# Altium integrated library NSC Interface.IntLib: 1288 symbols (part 5 of 45)
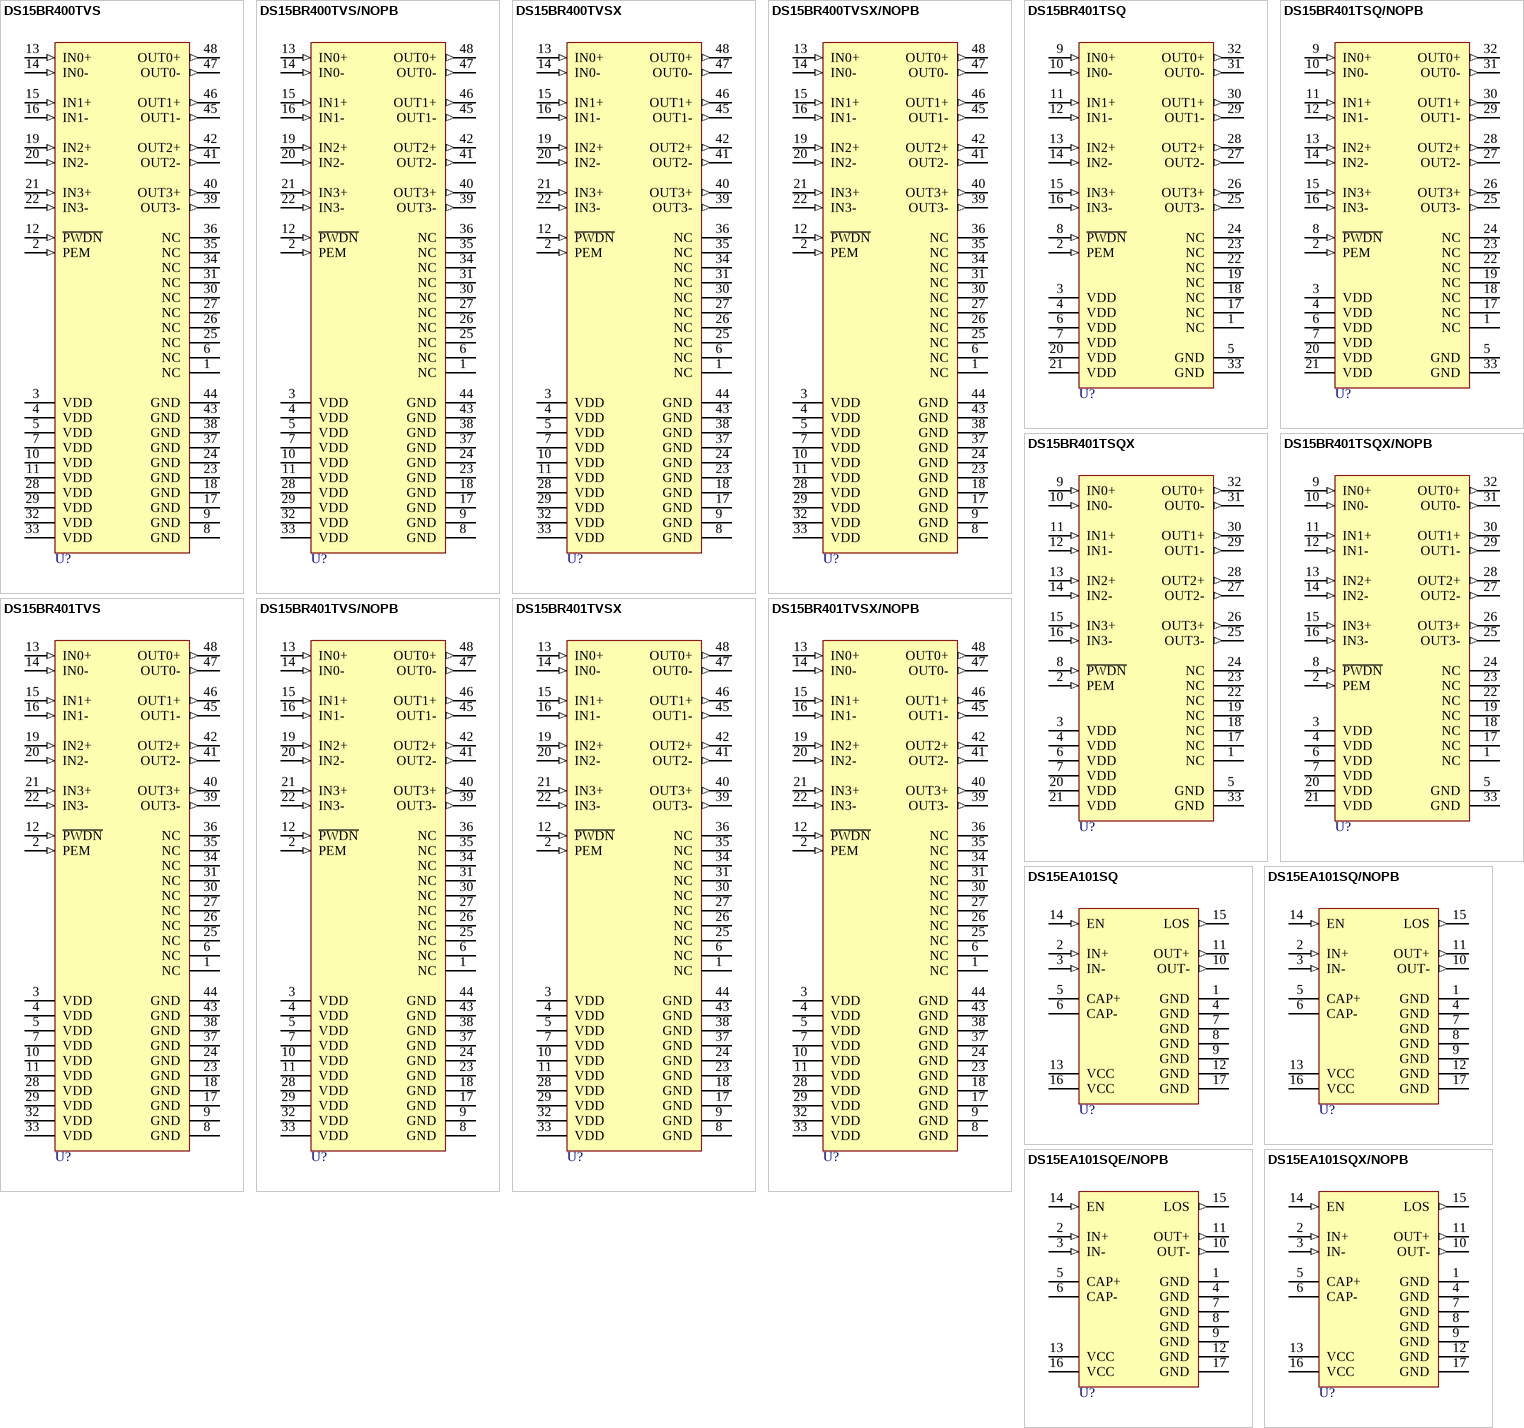
[diagram p116: symbols DS15BR400TVS to DS15EA101SQX/NOPB]

## DS15BR400TVS
designator U?
Four-Channel LVDS Repeaters with Pre-Emphasis, 48-pin TQFP; PartNumber: DS15BR400TVS; Manufacturer: National Semiconductor; PackageTopMarking: NSUZXYTT*DS15BR*400TVS; PowerWise: N; CompType: Interface IC; Published: 4-Dec-2008; DatasheetVersion: May-2007; PackageVersion: revA, Apr-2000; PackageReference: VBC48A; Publisher: Altium Limited; PackageDescription: TQFP, Jedec Metric, 7 x 7 x 1mm, 48 Lead, 0.5mm Pitch; RoHS: N; PinCount: 48; Code_JEDEC: MS-026-ABC; ComponentLink1Description: DS15BR400 Datasheet; ComponentLink1URL: http://www.national.com/ds/DS/DS15BR400.pdf; ComponentLink2Description: DS15BR400 Web Page; ComponentLink2URL: http://www.national.com/pf/DS/DS15BR400.html; ComponentLink3Description: VBC48A Package Page; ComponentLink3URL: http://www.national.com/packaging/folders/vbc48a.html
footprint VBC48A_N (Thin QFP, 48-Leads, Body 7x7mm, Pitch 0.5mm, IPC Medium Density)
footprint VBC48A_L (Thin QFP, 48-Leads, Body 7x7mm, Pitch 0.5mm, IPC High Density)
footprint VBC48A_M (Thin QFP, 48-Leads, Body 7x7mm, Pitch 0.5mm, IPC Low Density)
pins: 1 NC, 2 PEM (in), 3 VDD (power), 4 VDD (power), 5 VDD (power), 6 NC, 7 VDD (power), 8 GND (power), 9 GND (power), 10 VDD (power), 11 VDD (power), 12 ~{PWDN} (in), 13 IN0+ (in), 14 IN0- (in), 15 IN1+ (in), 16 IN1- (in), 17 GND (power), 18 GND (power), 19 IN2+ (in), 20 IN2- (in), 21 IN3+ (in), 22 IN3- (in), 23 GND (power), 24 GND (power), 25 NC, 26 NC, 27 NC, 28 VDD (power), 29 VDD (power), 30 NC, 31 NC, 32 VDD (power), 33 VDD (power), 34 NC, 35 NC, 36 NC, 37 GND (power), 38 GND (power), 39 OUT3- (out), 40 OUT3+ (out), 41 OUT2- (out), 42 OUT2+ (out), 43 GND (power), 44 GND (power), 45 OUT1- (out), 46 OUT1+ (out), 47 OUT0- (out), 48 OUT0+ (out)

## DS15BR400TVS/NOPB
designator U?
Four-Channel LVDS Repeaters with Pre-Emphasis, 48-pin TQFP, Pb-Free; PartNumber: DS15BR400TVS/NOPB; Manufacturer: National Semiconductor; PackageTopMarking: NSUZXYTT*DS15BR*400TVS; PowerWise: N; CompType: Interface IC; Published: 1-Mar-2010; DatasheetVersion: May-2007; PackageVersion: revA, Apr-2000; PackageReference: VBC48A; Publisher: Altium Limited; PackageDescription: TQFP, Jedec Metric, 7 x 7 x 1mm, 48 Lead, 0.5mm Pitch; Supplier 1: Digi-Key; Supplier Part Number 1: DS15BR400TVS-ND; Supplier 2: Farnell; Supplier Part Number 2: 1685362; RoHS: Y; PinCount: 48; Code_JEDEC: MS-026-ABC; ComponentLink1Description: DS15BR400 Datasheet; ComponentLink1URL: http://www.national.com/ds/DS/DS15BR400.pdf; ComponentLink2Description: DS15BR400 Web Page; ComponentLink2URL: http://www.national.com/pf/DS/DS15BR400.html; ComponentLink3Description: VBC48A Package Page; ComponentLink3URL: http://www.national.com/packaging/folders/vbc48a.html
footprint VBC48A_N (Thin QFP, 48-Leads, Body 7x7mm, Pitch 0.5mm, IPC Medium Density)
footprint VBC48A_L (Thin QFP, 48-Leads, Body 7x7mm, Pitch 0.5mm, IPC High Density)
footprint VBC48A_M (Thin QFP, 48-Leads, Body 7x7mm, Pitch 0.5mm, IPC Low Density)
pins: 1 NC, 2 PEM (in), 3 VDD (power), 4 VDD (power), 5 VDD (power), 6 NC, 7 VDD (power), 8 GND (power), 9 GND (power), 10 VDD (power), 11 VDD (power), 12 ~{PWDN} (in), 13 IN0+ (in), 14 IN0- (in), 15 IN1+ (in), 16 IN1- (in), 17 GND (power), 18 GND (power), 19 IN2+ (in), 20 IN2- (in), 21 IN3+ (in), 22 IN3- (in), 23 GND (power), 24 GND (power), 25 NC, 26 NC, 27 NC, 28 VDD (power), 29 VDD (power), 30 NC, 31 NC, 32 VDD (power), 33 VDD (power), 34 NC, 35 NC, 36 NC, 37 GND (power), 38 GND (power), 39 OUT3- (out), 40 OUT3+ (out), 41 OUT2- (out), 42 OUT2+ (out), 43 GND (power), 44 GND (power), 45 OUT1- (out), 46 OUT1+ (out), 47 OUT0- (out), 48 OUT0+ (out)

## DS15BR400TVSX
designator U?
Four-Channel LVDS Repeaters with Pre-Emphasis, 48-pin TQFP; PartNumber: DS15BR400TVSX; Manufacturer: National Semiconductor; PackageTopMarking: NSUZXYTT*DS15BR*400TVS; PowerWise: N; CompType: Interface IC; Published: 1-Mar-2010; DatasheetVersion: May-2007; PackageVersion: revA, Apr-2000; PackageReference: VBC48A; Publisher: Altium Limited; PackageDescription: TQFP, Jedec Metric, 7 x 7 x 1mm, 48 Lead, 0.5mm Pitch; RoHS: N; PinCount: 48; Code_JEDEC: MS-026-ABC; ComponentLink1Description: DS15BR400 Datasheet; ComponentLink1URL: http://www.national.com/ds/DS/DS15BR400.pdf; ComponentLink2Description: DS15BR400 Web Page; ComponentLink2URL: http://www.national.com/pf/DS/DS15BR400.html; ComponentLink3Description: VBC48A Package Page; ComponentLink3URL: http://www.national.com/packaging/folders/vbc48a.html
footprint VBC48A_N (Thin QFP, 48-Leads, Body 7x7mm, Pitch 0.5mm, IPC Medium Density)
footprint VBC48A_L (Thin QFP, 48-Leads, Body 7x7mm, Pitch 0.5mm, IPC High Density)
footprint VBC48A_M (Thin QFP, 48-Leads, Body 7x7mm, Pitch 0.5mm, IPC Low Density)
pins: 1 NC, 2 PEM (in), 3 VDD (power), 4 VDD (power), 5 VDD (power), 6 NC, 7 VDD (power), 8 GND (power), 9 GND (power), 10 VDD (power), 11 VDD (power), 12 ~{PWDN} (in), 13 IN0+ (in), 14 IN0- (in), 15 IN1+ (in), 16 IN1- (in), 17 GND (power), 18 GND (power), 19 IN2+ (in), 20 IN2- (in), 21 IN3+ (in), 22 IN3- (in), 23 GND (power), 24 GND (power), 25 NC, 26 NC, 27 NC, 28 VDD (power), 29 VDD (power), 30 NC, 31 NC, 32 VDD (power), 33 VDD (power), 34 NC, 35 NC, 36 NC, 37 GND (power), 38 GND (power), 39 OUT3- (out), 40 OUT3+ (out), 41 OUT2- (out), 42 OUT2+ (out), 43 GND (power), 44 GND (power), 45 OUT1- (out), 46 OUT1+ (out), 47 OUT0- (out), 48 OUT0+ (out)

## DS15BR400TVSX/NOPB
designator U?
Four-Channel LVDS Repeaters with Pre-Emphasis, 48-pin TQFP, Pb-Free; PartNumber: DS15BR400TVSX/NOPB; Manufacturer: National Semiconductor; PackageTopMarking: NSUZXYTT*DS15BR*400TVS; PowerWise: N; CompType: Interface IC; Published: 1-Mar-2010; DatasheetVersion: May-2007; PackageVersion: revA, Apr-2000; PackageReference: VBC48A; Publisher: Altium Limited; PackageDescription: TQFP, Jedec Metric, 7 x 7 x 1mm, 48 Lead, 0.5mm Pitch; Supplier 1: Digi-Key; Supplier Part Number 1: DS15BR400TVSX-ND; RoHS: Y; PinCount: 48; Code_JEDEC: MS-026-ABC; ComponentLink1Description: DS15BR400 Datasheet; ComponentLink1URL: http://www.national.com/ds/DS/DS15BR400.pdf; ComponentLink2Description: DS15BR400 Web Page; ComponentLink2URL: http://www.national.com/pf/DS/DS15BR400.html; ComponentLink3Description: VBC48A Package Page; ComponentLink3URL: http://www.national.com/packaging/folders/vbc48a.html
footprint VBC48A_N (Thin QFP, 48-Leads, Body 7x7mm, Pitch 0.5mm, IPC Medium Density)
footprint VBC48A_L (Thin QFP, 48-Leads, Body 7x7mm, Pitch 0.5mm, IPC High Density)
footprint VBC48A_M (Thin QFP, 48-Leads, Body 7x7mm, Pitch 0.5mm, IPC Low Density)
pins: 1 NC, 2 PEM (in), 3 VDD (power), 4 VDD (power), 5 VDD (power), 6 NC, 7 VDD (power), 8 GND (power), 9 GND (power), 10 VDD (power), 11 VDD (power), 12 ~{PWDN} (in), 13 IN0+ (in), 14 IN0- (in), 15 IN1+ (in), 16 IN1- (in), 17 GND (power), 18 GND (power), 19 IN2+ (in), 20 IN2- (in), 21 IN3+ (in), 22 IN3- (in), 23 GND (power), 24 GND (power), 25 NC, 26 NC, 27 NC, 28 VDD (power), 29 VDD (power), 30 NC, 31 NC, 32 VDD (power), 33 VDD (power), 34 NC, 35 NC, 36 NC, 37 GND (power), 38 GND (power), 39 OUT3- (out), 40 OUT3+ (out), 41 OUT2- (out), 42 OUT2+ (out), 43 GND (power), 44 GND (power), 45 OUT1- (out), 46 OUT1+ (out), 47 OUT0- (out), 48 OUT0+ (out)

## DS15BR401TSQ
designator U?
Four-Channel LVDS Repeaters with Pre-Emphasis, 32-pin LLP; PartNumber: DS15BR401TSQ; Manufacturer: National Semiconductor; PackageTopMarking: NS*UZXYTT*5R401SQ; PowerWise: N; CompType: Interface IC; Published: 4-Dec-2008; DatasheetVersion: May-2007; PackageVersion: revB, Oct-2009; PackageReference: SQA32A; Publisher: Altium Limited; PackageDescription: LLP, Quad, 5 x 5 x 0.8mm, 32 Lead, 0.5mm Pitch, No Pullback 3.1 x 3.1 Exposed Pad; RoHS: N; PinCount: 32; ComponentLink1Description: DS15BR401 Datasheet; ComponentLink1URL: http://www.national.com/ds/DS/DS15BR401.pdf; ComponentLink2Description: DS15BR401 Web Page; ComponentLink2URL: http://www.national.com/pf/DS/DS15BR401.html; ComponentLink3Description: SQA32A Package Page; ComponentLink3URL: http://www.national.com/packaging/folders/sqa32a.html
footprint SQA32A (QFN, 32-Leads, Body 5x5mm, Pitch 0.5mm, NSC Recommended)
pins: 1 NC, 2 PEM (in), 3 VDD (power), 4 VDD (power), 5 GND (power), 6 VDD (power), 7 VDD (power), 8 ~{PWDN} (in), 9 IN0+ (in), 10 IN0- (in), 11 IN1+ (in), 12 IN1- (in), 13 IN2+ (in), 14 IN2- (in), 15 IN3+ (in), 16 IN3- (in), 17 NC, 18 NC, 19 NC, 20 VDD (power), 21 VDD (power), 22 NC, 23 NC, 24 NC, 25 OUT3- (out), 26 OUT3+ (out), 27 OUT2- (out), 28 OUT2+ (out), 29 OUT1- (out), 30 OUT1+ (out), 31 OUT0- (out), 32 OUT0+ (out), 33 GND (power)

## DS15BR401TSQ/NOPB
designator U?
Four-Channel LVDS Repeaters with Pre-Emphasis, 32-pin LLP, Pb-Free; PartNumber: DS15BR401TSQ/NOPB; Manufacturer: National Semiconductor; PackageTopMarking: NS*UZXYTT*5R401SQ; PowerWise: N; CompType: Interface IC; Published: 1-Mar-2010; DatasheetVersion: May-2007; PackageVersion: revB, Oct-2009; PackageReference: SQA32A; Publisher: Altium Limited; PackageDescription: LLP, Quad, 5 x 5 x 0.8mm, 32 Lead, 0.5mm Pitch, No Pullback 3.1 x 3.1 Exposed Pad; Supplier 1: Digi-Key; Supplier Part Number 1: DS15BR401TSQTR-ND; Supplier 2: Digi-Key; Supplier Part Number 2: DS15BR401TSQCT-ND; Supplier 3: Digi-Key; Supplier Part Number 3: DS15BR401TSQDKR-ND; RoHS: Y; PinCount: 32; ComponentLink1Description: DS15BR401 Datasheet; ComponentLink1URL: http://www.national.com/ds/DS/DS15BR401.pdf; ComponentLink2Description: DS15BR401 Web Page; ComponentLink2URL: http://www.national.com/pf/DS/DS15BR401.html; ComponentLink3Description: SQA32A Package Page; ComponentLink3URL: http://www.national.com/packaging/folders/sqa32a.html
footprint SQA32A (QFN, 32-Leads, Body 5x5mm, Pitch 0.5mm, NSC Recommended)
pins: 1 NC, 2 PEM (in), 3 VDD (power), 4 VDD (power), 5 GND (power), 6 VDD (power), 7 VDD (power), 8 ~{PWDN} (in), 9 IN0+ (in), 10 IN0- (in), 11 IN1+ (in), 12 IN1- (in), 13 IN2+ (in), 14 IN2- (in), 15 IN3+ (in), 16 IN3- (in), 17 NC, 18 NC, 19 NC, 20 VDD (power), 21 VDD (power), 22 NC, 23 NC, 24 NC, 25 OUT3- (out), 26 OUT3+ (out), 27 OUT2- (out), 28 OUT2+ (out), 29 OUT1- (out), 30 OUT1+ (out), 31 OUT0- (out), 32 OUT0+ (out), 33 GND (power)

## DS15BR401TSQX
designator U?
Four-Channel LVDS Repeaters with Pre-Emphasis, 32-pin LLP; PartNumber: DS15BR401TSQX; Manufacturer: National Semiconductor; PackageTopMarking: NS*UZXYTT*5R401SQ; PowerWise: N; CompType: Interface IC; Published: 1-Mar-2010; DatasheetVersion: May-2007; PackageVersion: revB, Oct-2009; PackageReference: SQA32A; Publisher: Altium Limited; PackageDescription: LLP, Quad, 5 x 5 x 0.8mm, 32 Lead, 0.5mm Pitch, No Pullback 3.1 x 3.1 Exposed Pad; RoHS: N; PinCount: 32; ComponentLink1Description: DS15BR401 Datasheet; ComponentLink1URL: http://www.national.com/ds/DS/DS15BR401.pdf; ComponentLink2Description: DS15BR401 Web Page; ComponentLink2URL: http://www.national.com/pf/DS/DS15BR401.html; ComponentLink3Description: SQA32A Package Page; ComponentLink3URL: http://www.national.com/packaging/folders/sqa32a.html
footprint SQA32A (QFN, 32-Leads, Body 5x5mm, Pitch 0.5mm, NSC Recommended)
pins: 1 NC, 2 PEM (in), 3 VDD (power), 4 VDD (power), 5 GND (power), 6 VDD (power), 7 VDD (power), 8 ~{PWDN} (in), 9 IN0+ (in), 10 IN0- (in), 11 IN1+ (in), 12 IN1- (in), 13 IN2+ (in), 14 IN2- (in), 15 IN3+ (in), 16 IN3- (in), 17 NC, 18 NC, 19 NC, 20 VDD (power), 21 VDD (power), 22 NC, 23 NC, 24 NC, 25 OUT3- (out), 26 OUT3+ (out), 27 OUT2- (out), 28 OUT2+ (out), 29 OUT1- (out), 30 OUT1+ (out), 31 OUT0- (out), 32 OUT0+ (out), 33 GND (power)

## DS15BR401TSQX/NOPB
designator U?
Four-Channel LVDS Repeaters with Pre-Emphasis, 32-pin LLP, Pb-Free; PartNumber: DS15BR401TSQX/NOPB; Manufacturer: National Semiconductor; PackageTopMarking: NS*UZXYTT*5R401SQ; PowerWise: N; CompType: Interface IC; Published: 1-Mar-2010; DatasheetVersion: May-2007; PackageVersion: revB, Oct-2009; PackageReference: SQA32A; Publisher: Altium Limited; PackageDescription: LLP, Quad, 5 x 5 x 0.8mm, 32 Lead, 0.5mm Pitch, No Pullback 3.1 x 3.1 Exposed Pad; Supplier 1: Digi-Key; Supplier Part Number 1: DS15BR401TSQX-ND; RoHS: Y; PinCount: 32; ComponentLink1Description: DS15BR401 Datasheet; ComponentLink1URL: http://www.national.com/ds/DS/DS15BR401.pdf; ComponentLink2Description: DS15BR401 Web Page; ComponentLink2URL: http://www.national.com/pf/DS/DS15BR401.html; ComponentLink3Description: SQA32A Package Page; ComponentLink3URL: http://www.national.com/packaging/folders/sqa32a.html
footprint SQA32A (QFN, 32-Leads, Body 5x5mm, Pitch 0.5mm, NSC Recommended)
pins: 1 NC, 2 PEM (in), 3 VDD (power), 4 VDD (power), 5 GND (power), 6 VDD (power), 7 VDD (power), 8 ~{PWDN} (in), 9 IN0+ (in), 10 IN0- (in), 11 IN1+ (in), 12 IN1- (in), 13 IN2+ (in), 14 IN2- (in), 15 IN3+ (in), 16 IN3- (in), 17 NC, 18 NC, 19 NC, 20 VDD (power), 21 VDD (power), 22 NC, 23 NC, 24 NC, 25 OUT3- (out), 26 OUT3+ (out), 27 OUT2- (out), 28 OUT2+ (out), 29 OUT1- (out), 30 OUT1+ (out), 31 OUT0- (out), 32 OUT0+ (out), 33 GND (power)

## DS15BR401TVS
designator U?
Four-Channel LVDS Repeaters with Pre-Emphasis, 48-pin TQFP; PartNumber: DS15BR401TVS; Manufacturer: National Semiconductor; PackageTopMarking: NSUZXYTT*DS15BR*401TVS; PowerWise: N; CompType: Interface IC; Published: 4-Dec-2008; DatasheetVersion: May-2007; PackageVersion: revA, Apr-2000; PackageReference: VBC48A; Publisher: Altium Limited; PackageDescription: TQFP, Jedec Metric, 7 x 7 x 1mm, 48 Lead, 0.5mm Pitch; RoHS: N; PinCount: 48; Code_JEDEC: MS-026-ABC; ComponentLink1Description: DS15BR401 Datasheet; ComponentLink1URL: http://www.national.com/ds/DS/DS15BR401.pdf; ComponentLink2Description: DS15BR401 Web Page; ComponentLink2URL: http://www.national.com/pf/DS/DS15BR401.html; ComponentLink3Description: VBC48A Package Page; ComponentLink3URL: http://www.national.com/packaging/folders/vbc48a.html
footprint VBC48A_N (Thin QFP, 48-Leads, Body 7x7mm, Pitch 0.5mm, IPC Medium Density)
footprint VBC48A_L (Thin QFP, 48-Leads, Body 7x7mm, Pitch 0.5mm, IPC High Density)
footprint VBC48A_M (Thin QFP, 48-Leads, Body 7x7mm, Pitch 0.5mm, IPC Low Density)
pins: 1 NC, 2 PEM (in), 3 VDD (power), 4 VDD (power), 5 VDD (power), 6 NC, 7 VDD (power), 8 GND (power), 9 GND (power), 10 VDD (power), 11 VDD (power), 12 ~{PWDN} (in), 13 IN0+ (in), 14 IN0- (in), 15 IN1+ (in), 16 IN1- (in), 17 GND (power), 18 GND (power), 19 IN2+ (in), 20 IN2- (in), 21 IN3+ (in), 22 IN3- (in), 23 GND (power), 24 GND (power), 25 NC, 26 NC, 27 NC, 28 VDD (power), 29 VDD (power), 30 NC, 31 NC, 32 VDD (power), 33 VDD (power), 34 NC, 35 NC, 36 NC, 37 GND (power), 38 GND (power), 39 OUT3- (out), 40 OUT3+ (out), 41 OUT2- (out), 42 OUT2+ (out), 43 GND (power), 44 GND (power), 45 OUT1- (out), 46 OUT1+ (out), 47 OUT0- (out), 48 OUT0+ (out)

## DS15BR401TVS/NOPB
designator U?
Four-Channel LVDS Repeaters with Pre-Emphasis, 48-pin TQFP, Pb-Free; PartNumber: DS15BR401TVS/NOPB; Manufacturer: National Semiconductor; PackageTopMarking: NSUZXYTT*DS15BR*401TVS; PowerWise: N; CompType: Interface IC; Published: 1-Mar-2010; DatasheetVersion: May-2007; PackageVersion: revA, Apr-2000; PackageReference: VBC48A; Publisher: Altium Limited; PackageDescription: TQFP, Jedec Metric, 7 x 7 x 1mm, 48 Lead, 0.5mm Pitch; Supplier 1: Digi-Key; Supplier Part Number 1: DS15BR401TVS-ND; RoHS: Y; PinCount: 48; Code_JEDEC: MS-026-ABC; ComponentLink1Description: DS15BR401 Datasheet; ComponentLink1URL: http://www.national.com/ds/DS/DS15BR401.pdf; ComponentLink2Description: DS15BR401 Web Page; ComponentLink2URL: http://www.national.com/pf/DS/DS15BR401.html; ComponentLink3Description: VBC48A Package Page; ComponentLink3URL: http://www.national.com/packaging/folders/vbc48a.html
footprint VBC48A_N (Thin QFP, 48-Leads, Body 7x7mm, Pitch 0.5mm, IPC Medium Density)
footprint VBC48A_L (Thin QFP, 48-Leads, Body 7x7mm, Pitch 0.5mm, IPC High Density)
footprint VBC48A_M (Thin QFP, 48-Leads, Body 7x7mm, Pitch 0.5mm, IPC Low Density)
pins: 1 NC, 2 PEM (in), 3 VDD (power), 4 VDD (power), 5 VDD (power), 6 NC, 7 VDD (power), 8 GND (power), 9 GND (power), 10 VDD (power), 11 VDD (power), 12 ~{PWDN} (in), 13 IN0+ (in), 14 IN0- (in), 15 IN1+ (in), 16 IN1- (in), 17 GND (power), 18 GND (power), 19 IN2+ (in), 20 IN2- (in), 21 IN3+ (in), 22 IN3- (in), 23 GND (power), 24 GND (power), 25 NC, 26 NC, 27 NC, 28 VDD (power), 29 VDD (power), 30 NC, 31 NC, 32 VDD (power), 33 VDD (power), 34 NC, 35 NC, 36 NC, 37 GND (power), 38 GND (power), 39 OUT3- (out), 40 OUT3+ (out), 41 OUT2- (out), 42 OUT2+ (out), 43 GND (power), 44 GND (power), 45 OUT1- (out), 46 OUT1+ (out), 47 OUT0- (out), 48 OUT0+ (out)

## DS15BR401TVSX
designator U?
Four-Channel LVDS Repeaters with Pre-Emphasis, 48-pin TQFP; PartNumber: DS15BR401TVSX; Manufacturer: National Semiconductor; PackageTopMarking: NSUZXYTT*DS15BR*401TVS; PowerWise: N; CompType: Interface IC; Published: 1-Mar-2010; DatasheetVersion: May-2007; PackageVersion: revA, Apr-2000; PackageReference: VBC48A; Publisher: Altium Limited; PackageDescription: TQFP, Jedec Metric, 7 x 7 x 1mm, 48 Lead, 0.5mm Pitch; RoHS: N; PinCount: 48; Code_JEDEC: MS-026-ABC; ComponentLink1Description: DS15BR401 Datasheet; ComponentLink1URL: http://www.national.com/ds/DS/DS15BR401.pdf; ComponentLink2Description: DS15BR401 Web Page; ComponentLink2URL: http://www.national.com/pf/DS/DS15BR401.html; ComponentLink3Description: VBC48A Package Page; ComponentLink3URL: http://www.national.com/packaging/folders/vbc48a.html
footprint VBC48A_N (Thin QFP, 48-Leads, Body 7x7mm, Pitch 0.5mm, IPC Medium Density)
footprint VBC48A_L (Thin QFP, 48-Leads, Body 7x7mm, Pitch 0.5mm, IPC High Density)
footprint VBC48A_M (Thin QFP, 48-Leads, Body 7x7mm, Pitch 0.5mm, IPC Low Density)
pins: 1 NC, 2 PEM (in), 3 VDD (power), 4 VDD (power), 5 VDD (power), 6 NC, 7 VDD (power), 8 GND (power), 9 GND (power), 10 VDD (power), 11 VDD (power), 12 ~{PWDN} (in), 13 IN0+ (in), 14 IN0- (in), 15 IN1+ (in), 16 IN1- (in), 17 GND (power), 18 GND (power), 19 IN2+ (in), 20 IN2- (in), 21 IN3+ (in), 22 IN3- (in), 23 GND (power), 24 GND (power), 25 NC, 26 NC, 27 NC, 28 VDD (power), 29 VDD (power), 30 NC, 31 NC, 32 VDD (power), 33 VDD (power), 34 NC, 35 NC, 36 NC, 37 GND (power), 38 GND (power), 39 OUT3- (out), 40 OUT3+ (out), 41 OUT2- (out), 42 OUT2+ (out), 43 GND (power), 44 GND (power), 45 OUT1- (out), 46 OUT1+ (out), 47 OUT0- (out), 48 OUT0+ (out)

## DS15BR401TVSX/NOPB
designator U?
Four-Channel LVDS Repeaters with Pre-Emphasis, 48-pin TQFP, Pb-Free; PartNumber: DS15BR401TVSX/NOPB; Manufacturer: National Semiconductor; PackageTopMarking: NSUZXYTT*DS15BR*401TVS; PowerWise: N; CompType: Interface IC; Published: 1-Mar-2010; DatasheetVersion: May-2007; PackageVersion: revA, Apr-2000; PackageReference: VBC48A; Publisher: Altium Limited; PackageDescription: TQFP, Jedec Metric, 7 x 7 x 1mm, 48 Lead, 0.5mm Pitch; Supplier 1: Digi-Key; Supplier Part Number 1: DS15BR401TVSX-ND; RoHS: Y; PinCount: 48; Code_JEDEC: MS-026-ABC; ComponentLink1Description: DS15BR401 Datasheet; ComponentLink1URL: http://www.national.com/ds/DS/DS15BR401.pdf; ComponentLink2Description: DS15BR401 Web Page; ComponentLink2URL: http://www.national.com/pf/DS/DS15BR401.html; ComponentLink3Description: VBC48A Package Page; ComponentLink3URL: http://www.national.com/packaging/folders/vbc48a.html
footprint VBC48A_N (Thin QFP, 48-Leads, Body 7x7mm, Pitch 0.5mm, IPC Medium Density)
footprint VBC48A_L (Thin QFP, 48-Leads, Body 7x7mm, Pitch 0.5mm, IPC High Density)
footprint VBC48A_M (Thin QFP, 48-Leads, Body 7x7mm, Pitch 0.5mm, IPC Low Density)
pins: 1 NC, 2 PEM (in), 3 VDD (power), 4 VDD (power), 5 VDD (power), 6 NC, 7 VDD (power), 8 GND (power), 9 GND (power), 10 VDD (power), 11 VDD (power), 12 ~{PWDN} (in), 13 IN0+ (in), 14 IN0- (in), 15 IN1+ (in), 16 IN1- (in), 17 GND (power), 18 GND (power), 19 IN2+ (in), 20 IN2- (in), 21 IN3+ (in), 22 IN3- (in), 23 GND (power), 24 GND (power), 25 NC, 26 NC, 27 NC, 28 VDD (power), 29 VDD (power), 30 NC, 31 NC, 32 VDD (power), 33 VDD (power), 34 NC, 35 NC, 36 NC, 37 GND (power), 38 GND (power), 39 OUT3- (out), 40 OUT3+ (out), 41 OUT2- (out), 42 OUT2+ (out), 43 GND (power), 44 GND (power), 45 OUT1- (out), 46 OUT1+ (out), 47 OUT0- (out), 48 OUT0+ (out)

## DS15EA101SQ
designator U?
0.15 to 1.5 Gbps Adaptive Cable Equalizer with LOS Detection, 16-pin LLP; PartNumber: DS15EA101SQ; Manufacturer: National Semiconductor; PackageTopMarking: NS*UZXYTT*15EA101; PowerWise: N; CompType: Interface IC; Published: 4-Dec-2008; DatasheetVersion: Jan-2009; PackageVersion: revA, Oct-2003; PackageReference: SQA16A; Publisher: Altium Limited; PackageDescription: LLP, Plastic, Quad, 4 x 4 x 0.8mm Body, 16 Lead, 0.5mm Pitch, No Pullback; RoHS: Y; PinCount: 16; ComponentLink1Description: DS15EA101 Datasheet; ComponentLink1URL: http://www.national.com/ds/DS/DS15EA101.pdf; ComponentLink2Description: DS15EA101 Web Page; ComponentLink2URL: http://www.national.com/pf/DS/DS15EA101.html; ComponentLink3Description: SQA16A Package Page; ComponentLink3URL: http://www.national.com/packaging/folders/sqa16a.html
footprint SQA16A (QFN, 16-Leads, Body 4x4mm, Pitch 0.5mm, NSC Recommended)
pins: 1 GND (power), 2 IN+ (in), 3 IN- (in), 4 GND (power), 5 CAP+, 6 CAP-, 7 GND (power), 8 GND (power), 9 GND (power), 10 OUT- (out), 11 OUT+ (out), 12 GND (power), 13 VCC (power), 14 EN (in), 15 LOS (out), 16 VCC (power), 17 GND (power)

## DS15EA101SQ/NOPB
designator U?
0.15 to 1.5 Gbps Adaptive Cable Equalizer with LOS Detection, 16-pin LLP, Pb-Free; PartNumber: DS15EA101SQ/NOPB; Manufacturer: National Semiconductor; PackageTopMarking: NS*UZXYTT*15EA101; PowerWise: N; CompType: Interface IC; Published: 1-Mar-2010; DatasheetVersion: Jan-2009; PackageVersion: revA, Oct-2003; PackageReference: SQA16A; Publisher: Altium Limited; PackageDescription: LLP, Plastic, Quad, 4 x 4 x 0.8mm Body, 16 Lead, 0.5mm Pitch, No Pullback; Supplier 1: Digi-Key; Supplier Part Number 1: DS15EA101SQTR-ND; Supplier 2: Digi-Key; Supplier Part Number 2: DS15EA101SQCT-ND; Supplier 3: Digi-Key; Supplier Part Number 3: DS15EA101SQDKR-ND; Supplier 4: Farnell; Supplier Part Number 4: 1685579; RoHS: Y; PinCount: 16; ComponentLink1Description: DS15EA101 Datasheet; ComponentLink1URL: http://www.national.com/ds/DS/DS15EA101.pdf; ComponentLink2Description: DS15EA101 Web Page; ComponentLink2URL: http://www.national.com/pf/DS/DS15EA101.html; ComponentLink3Description: SQA16A Package Page; ComponentLink3URL: http://www.national.com/packaging/folders/sqa16a.html
footprint SQA16A (QFN, 16-Leads, Body 4x4mm, Pitch 0.5mm, NSC Recommended)
pins: 1 GND (power), 2 IN+ (in), 3 IN- (in), 4 GND (power), 5 CAP+, 6 CAP-, 7 GND (power), 8 GND (power), 9 GND (power), 10 OUT- (out), 11 OUT+ (out), 12 GND (power), 13 VCC (power), 14 EN (in), 15 LOS (out), 16 VCC (power), 17 GND (power)

## DS15EA101SQE/NOPB
designator U?
0.15 to 1.5 Gbps Adaptive Cable Equalizer with LOS Detection, 16-pin LLP, Pb-Free; PartNumber: DS15EA101SQE/NOPB; Manufacturer: National Semiconductor; PackageTopMarking: NS*UZXYTT*15EA101; PowerWise: N; CompType: Interface IC; Published: 1-Mar-2010; DatasheetVersion: Jan-2009; PackageVersion: revA, Oct-2003; PackageReference: SQA16A; Publisher: Altium Limited; PackageDescription: LLP, Plastic, Quad, 4 x 4 x 0.8mm Body, 16 Lead, 0.5mm Pitch, No Pullback; Supplier 1: Digi-Key; Supplier Part Number 1: DS15EA101SQE-ND; Supplier 2: Farnell; Supplier Part Number 2: 1685565; RoHS: Y; PinCount: 16; ComponentLink1Description: DS15EA101 Datasheet; ComponentLink1URL: http://www.national.com/ds/DS/DS15EA101.pdf; ComponentLink2Description: DS15EA101 Web Page; ComponentLink2URL: http://www.national.com/pf/DS/DS15EA101.html; ComponentLink3Description: SQA16A Package Page; ComponentLink3URL: http://www.national.com/packaging/folders/sqa16a.html
footprint SQA16A (QFN, 16-Leads, Body 4x4mm, Pitch 0.5mm, NSC Recommended)
pins: 1 GND (power), 2 IN+ (in), 3 IN- (in), 4 GND (power), 5 CAP+, 6 CAP-, 7 GND (power), 8 GND (power), 9 GND (power), 10 OUT- (out), 11 OUT+ (out), 12 GND (power), 13 VCC (power), 14 EN (in), 15 LOS (out), 16 VCC (power), 17 GND (power)

## DS15EA101SQX/NOPB
designator U?
0.15 to 1.5 Gbps Adaptive Cable Equalizer with LOS Detection, 16-pin LLP, Pb-Free; PartNumber: DS15EA101SQX/NOPB; Manufacturer: National Semiconductor; PackageTopMarking: NS*UZXYTT*15EA101; PowerWise: N; CompType: Interface IC; Published: 1-Mar-2010; DatasheetVersion: Jan-2009; PackageVersion: revA, Oct-2003; PackageReference: SQA16A; Publisher: Altium Limited; PackageDescription: LLP, Plastic, Quad, 4 x 4 x 0.8mm Body, 16 Lead, 0.5mm Pitch, No Pullback; Supplier 1: Digi-Key; Supplier Part Number 1: DS15EA101SQX-ND; RoHS: Y; PinCount: 16; ComponentLink1Description: DS15EA101 Datasheet; ComponentLink1URL: http://www.national.com/ds/DS/DS15EA101.pdf; ComponentLink2Description: DS15EA101 Web Page; ComponentLink2URL: http://www.national.com/pf/DS/DS15EA101.html; ComponentLink3Description: SQA16A Package Page; ComponentLink3URL: http://www.national.com/packaging/folders/sqa16a.html
footprint SQA16A (QFN, 16-Leads, Body 4x4mm, Pitch 0.5mm, NSC Recommended)
pins: 1 GND (power), 2 IN+ (in), 3 IN- (in), 4 GND (power), 5 CAP+, 6 CAP-, 7 GND (power), 8 GND (power), 9 GND (power), 10 OUT- (out), 11 OUT+ (out), 12 GND (power), 13 VCC (power), 14 EN (in), 15 LOS (out), 16 VCC (power), 17 GND (power)

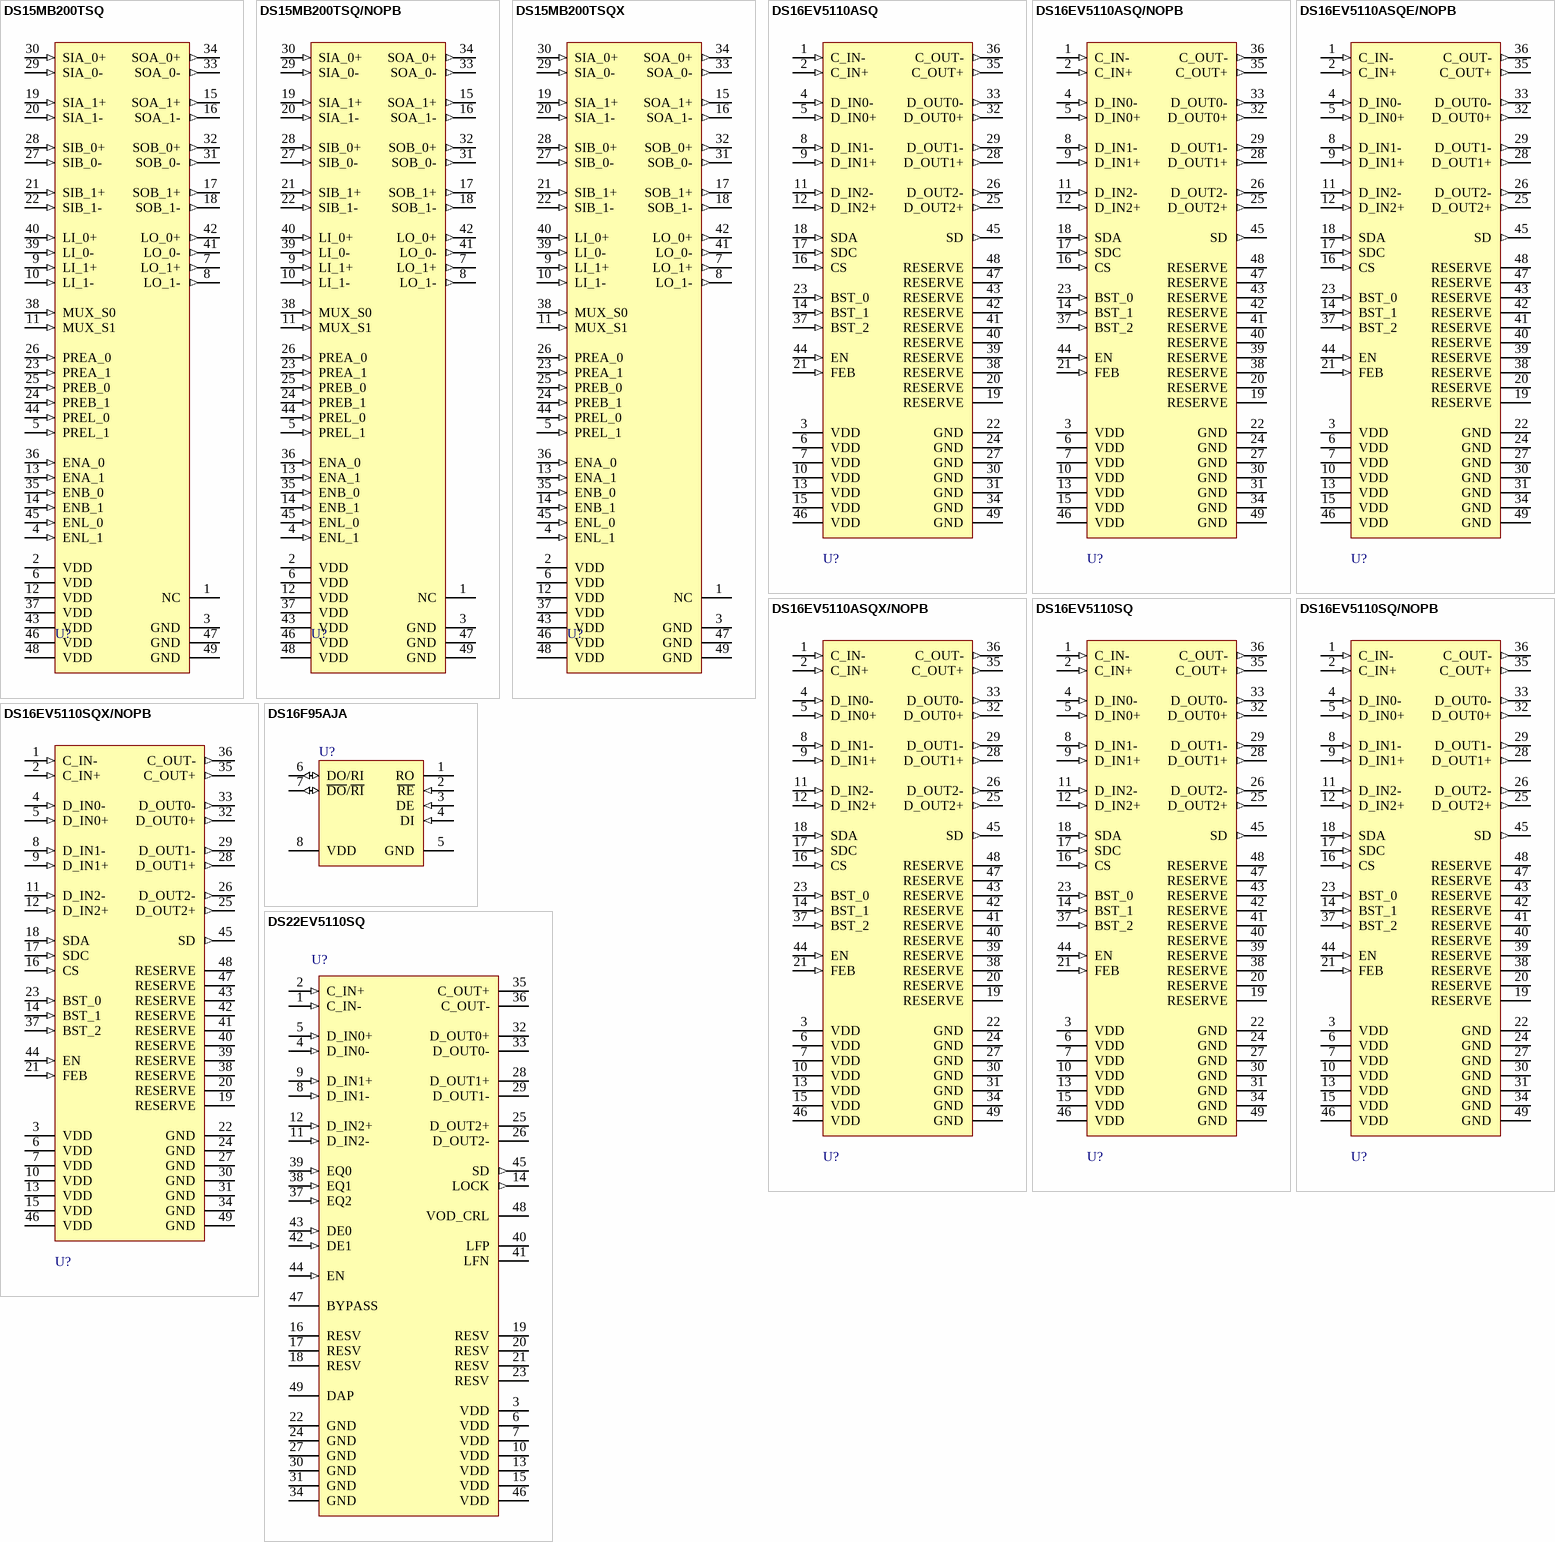
[diagram p15: symbols DS15MB200TSQ to DS22EV5110SQ]

## DS15MB200TSQ
designator U?
Dual 1.5 Gbps 2:1/1:2 LVDS Mux/Buffer with Pre-Emphasis, 48-pin LLP; PartNumber: DS15MB200TSQ; Manufacturer: National Semiconductor; PackageTopMarking: NS*UZXYTTE#*15M200; PowerWise: N; CompType: Interface IC; Published: 4-Dec-2008; DatasheetVersion: May-2006; PackageVersion: revB, May-2009; PackageReference: SQA48A; Publisher: Altium Limited; PackageDescription: LLP, Plastic, Quad, 7 x 7 x 0.8mm Body, 48 Lead, 0.5mm Pitch, No Pullback; RoHS: N; PinCount: 48; Code_JEDEC: MO-220-WKKD-2; ComponentLink1Description: DS15MB200 Datasheet; ComponentLink1URL: http://www.national.com/ds/DS/DS15MB200.pdf; ComponentLink2Description: DS15MB200 Web Page; ComponentLink2URL: http://www.national.com/pf/DS/DS15MB200.html; ComponentLink3Description: SQA48A Package Page; ComponentLink3URL: http://www.national.com/packaging/folders/sqa48a.html
footprint SQA48A (QFN, 48-Leads, Body 7x7mm, Pitch 0.5mm, NSC Recommended)
pins: 1 NC, 2 VDD (power), 3 GND (power), 4 ENL_1 (in), 5 PREL_1 (in), 6 VDD (power), 7 LO_1+ (out), 8 LO_1- (out), 9 LI_1+ (in), 10 LI_1- (in), 11 MUX_S1 (in), 12 VDD (power), 13 ENA_1 (in), 14 ENB_1 (in), 15 SOA_1+ (out), 16 SOA_1- (out), 17 SOB_1+ (out), 18 SOB_1- (out), 19 SIA_1+ (in), 20 SIA_1- (in), 21 SIB_1+ (in), 22 SIB_1- (in), 23 PREA_1 (in), 24 PREB_1 (in), 25 PREB_0 (in), 26 PREA_0 (in), 27 SIB_0- (in), 28 SIB_0+ (in), 29 SIA_0- (in), 30 SIA_0+ (in), 31 SOB_0- (out), 32 SOB_0+ (out), 33 SOA_0- (out), 34 SOA_0+ (out), 35 ENB_0 (in), 36 ENA_0 (in), 37 VDD (power), 38 MUX_S0 (in), 39 LI_0- (in), 40 LI_0+ (in), 41 LO_0- (out), 42 LO_0+ (out), 43 VDD (power), 44 PREL_0 (in), 45 ENL_0 (in), 46 VDD (power), 47 GND (power), 48 VDD (power), 49 GND (power)

## DS15MB200TSQ/NOPB
designator U?
Dual 1.5 Gbps 2:1/1:2 LVDS Mux/Buffer with Pre-Emphasis, 48-pin LLP, Pb-Free; PartNumber: DS15MB200TSQ/NOPB; Manufacturer: National Semiconductor; PackageTopMarking: NS*UZXYTTE#*15M200; PowerWise: N; CompType: Interface IC; Published: 1-Mar-2010; DatasheetVersion: May-2006; PackageVersion: revB, May-2009; PackageReference: SQA48A; Publisher: Altium Limited; PackageDescription: LLP, Plastic, Quad, 7 x 7 x 0.8mm Body, 48 Lead, 0.5mm Pitch, No Pullback; Supplier 1: Digi-Key; Supplier Part Number 1: DS15MB200TSQTR-ND; Supplier 2: Digi-Key; Supplier Part Number 2: DS15MB200TSQCT-ND; Supplier 3: Digi-Key; Supplier Part Number 3: DS15MB200TSQDKR-ND; Supplier 4: Farnell; Supplier Part Number 4: 1694623; RoHS: Y; PinCount: 48; Code_JEDEC: MO-220-WKKD-2; ComponentLink1Description: DS15MB200 Datasheet; ComponentLink1URL: http://www.national.com/ds/DS/DS15MB200.pdf; ComponentLink2Description: DS15MB200 Web Page; ComponentLink2URL: http://www.national.com/pf/DS/DS15MB200.html; ComponentLink3Description: SQA48A Package Page; ComponentLink3URL: http://www.national.com/packaging/folders/sqa48a.html
footprint SQA48A (QFN, 48-Leads, Body 7x7mm, Pitch 0.5mm, NSC Recommended)
pins: 1 NC, 2 VDD (power), 3 GND (power), 4 ENL_1 (in), 5 PREL_1 (in), 6 VDD (power), 7 LO_1+ (out), 8 LO_1- (out), 9 LI_1+ (in), 10 LI_1- (in), 11 MUX_S1 (in), 12 VDD (power), 13 ENA_1 (in), 14 ENB_1 (in), 15 SOA_1+ (out), 16 SOA_1- (out), 17 SOB_1+ (out), 18 SOB_1- (out), 19 SIA_1+ (in), 20 SIA_1- (in), 21 SIB_1+ (in), 22 SIB_1- (in), 23 PREA_1 (in), 24 PREB_1 (in), 25 PREB_0 (in), 26 PREA_0 (in), 27 SIB_0- (in), 28 SIB_0+ (in), 29 SIA_0- (in), 30 SIA_0+ (in), 31 SOB_0- (out), 32 SOB_0+ (out), 33 SOA_0- (out), 34 SOA_0+ (out), 35 ENB_0 (in), 36 ENA_0 (in), 37 VDD (power), 38 MUX_S0 (in), 39 LI_0- (in), 40 LI_0+ (in), 41 LO_0- (out), 42 LO_0+ (out), 43 VDD (power), 44 PREL_0 (in), 45 ENL_0 (in), 46 VDD (power), 47 GND (power), 48 VDD (power), 49 GND (power)

## DS15MB200TSQX
designator U?
Dual 1.5 Gbps 2:1/1:2 LVDS Mux/Buffer with Pre-Emphasis, 48-pin LLP; PartNumber: DS15MB200TSQX; Manufacturer: National Semiconductor; PackageTopMarking: NS*UZXYTT*15M200; PowerWise: N; CompType: Interface IC; Published: 1-Mar-2010; DatasheetVersion: May-2006; PackageVersion: revB, May-2009; PackageReference: SQA48A; Publisher: Altium Limited; PackageDescription: LLP, Plastic, Quad, 7 x 7 x 0.8mm Body, 48 Lead, 0.5mm Pitch, No Pullback; RoHS: N; PinCount: 48; Code_JEDEC: MO-220-WKKD-2; ComponentLink1Description: DS15MB200 Datasheet; ComponentLink1URL: http://www.national.com/ds/DS/DS15MB200.pdf; ComponentLink2Description: DS15MB200 Web Page; ComponentLink2URL: http://www.national.com/pf/DS/DS15MB200.html; ComponentLink3Description: SQA48A Package Page; ComponentLink3URL: http://www.national.com/packaging/folders/sqa48a.html
footprint SQA48A (QFN, 48-Leads, Body 7x7mm, Pitch 0.5mm, NSC Recommended)
pins: 1 NC, 2 VDD (power), 3 GND (power), 4 ENL_1 (in), 5 PREL_1 (in), 6 VDD (power), 7 LO_1+ (out), 8 LO_1- (out), 9 LI_1+ (in), 10 LI_1- (in), 11 MUX_S1 (in), 12 VDD (power), 13 ENA_1 (in), 14 ENB_1 (in), 15 SOA_1+ (out), 16 SOA_1- (out), 17 SOB_1+ (out), 18 SOB_1- (out), 19 SIA_1+ (in), 20 SIA_1- (in), 21 SIB_1+ (in), 22 SIB_1- (in), 23 PREA_1 (in), 24 PREB_1 (in), 25 PREB_0 (in), 26 PREA_0 (in), 27 SIB_0- (in), 28 SIB_0+ (in), 29 SIA_0- (in), 30 SIA_0+ (in), 31 SOB_0- (out), 32 SOB_0+ (out), 33 SOA_0- (out), 34 SOA_0+ (out), 35 ENB_0 (in), 36 ENA_0 (in), 37 VDD (power), 38 MUX_S0 (in), 39 LI_0- (in), 40 LI_0+ (in), 41 LO_0- (out), 42 LO_0+ (out), 43 VDD (power), 44 PREL_0 (in), 45 ENL_0 (in), 46 VDD (power), 47 GND (power), 48 VDD (power), 49 GND (power)

## DS16EV5110ASQ
designator U?
Video Equalizer (3D+C) for DVI, HDMI Source/Repeater/Sink Applications, 48-pin LLP; PartNumber: DS16EV5110ASQ; Manufacturer: National Semiconductor; PackageTopMarking: NS*UZXYTT*D16EV511A; PowerWise: N; CompType: Interface IC; Published: 4-Dec-2008; DatasheetVersion: Oct-2008; PackageVersion: revA, Jul-2004; PackageReference: SQA48D; Publisher: Altium Limited; PackageDescription: LLP, Quad, 7 x 7 x 0.8mm, 48 Lead, 0.5mm Pitch, 4.1 x 4.1 Exposed Pad; RoHS: Y; PinCount: 48; ComponentLink1Description: DS16EV5110A Datasheet; ComponentLink1URL: http://www.national.com/ds/DS/DS16EV5110A.pdf; ComponentLink2Description: DS16EV5110A Web Page; ComponentLink2URL: http://www.national.com/pf/DS/DS16EV5110A.html; ComponentLink3Description: SQA48D Package Page; ComponentLink3URL: http://www.national.com/packaging/folders/sqa48d.html
footprint SQA48D (QFN, 48-Leads, Body 7x7mm, Pitch 0.5mm, NSC Recommended)
pins: 1 C_IN- (in), 2 C_IN+ (in), 3 VDD (power), 4 D_IN0- (in), 5 D_IN0+ (in), 6 VDD (power), 7 VDD (power), 8 D_IN1- (in), 9 D_IN1+ (in), 10 VDD (power), 11 D_IN2- (in), 12 D_IN2+ (in), 13 VDD (power), 14 BST_1 (in), 15 VDD (power), 16 CS (in), 17 SDC (in), 18 SDA (in), 19 RESERVE, 20 RESERVE, 21 FEB (in), 22 GND (power), 23 BST_0 (in), 24 GND (power), 25 D_OUT2+ (out), 26 D_OUT2- (out), 27 GND (power), 28 D_OUT1+ (out), 29 D_OUT1- (out), 30 GND (power), 31 GND (power), 32 D_OUT0+ (out), 33 D_OUT0- (out), 34 GND (power), 35 C_OUT+ (out), 36 C_OUT- (out), 37 BST_2 (in), 38 RESERVE, 39 RESERVE, 40 RESERVE, 41 RESERVE, 42 RESERVE, 43 RESERVE, 44 EN (in), 45 SD (out), 46 VDD (power), 47 RESERVE, 48 RESERVE, 49 GND (power)

## DS16EV5110ASQ/NOPB
designator U?
Video Equalizer (3D+C) for DVI, HDMI Source/Repeater/Sink Applications, 48-pin LLP, Pb-Free; PartNumber: DS16EV5110ASQ/NOPB; Manufacturer: National Semiconductor; PackageTopMarking: NS*UZXYTTE#*D16EV511A; PowerWise: N; CompType: Interface IC; Published: 1-Mar-2010; DatasheetVersion: Oct-2008; PackageVersion: revA, Jul-2004; PackageReference: SQA48D; Publisher: Altium Limited; PackageDescription: LLP, Quad, 7 x 7 x 0.8mm, 48 Lead, 0.5mm Pitch, 4.1 x 4.1 Exposed Pad; Supplier 1: Digi-Key; Supplier Part Number 1: DS16EV5110ASQ-ND; RoHS: Y; PinCount: 48; ComponentLink1Description: DS16EV5110A Datasheet; ComponentLink1URL: http://www.national.com/ds/DS/DS16EV5110A.pdf; ComponentLink2Description: DS16EV5110A Web Page; ComponentLink2URL: http://www.national.com/pf/DS/DS16EV5110A.html; ComponentLink3Description: SQA48D Package Page; ComponentLink3URL: http://www.national.com/packaging/folders/sqa48d.html
footprint SQA48D (QFN, 48-Leads, Body 7x7mm, Pitch 0.5mm, NSC Recommended)
pins: 1 C_IN- (in), 2 C_IN+ (in), 3 VDD (power), 4 D_IN0- (in), 5 D_IN0+ (in), 6 VDD (power), 7 VDD (power), 8 D_IN1- (in), 9 D_IN1+ (in), 10 VDD (power), 11 D_IN2- (in), 12 D_IN2+ (in), 13 VDD (power), 14 BST_1 (in), 15 VDD (power), 16 CS (in), 17 SDC (in), 18 SDA (in), 19 RESERVE, 20 RESERVE, 21 FEB (in), 22 GND (power), 23 BST_0 (in), 24 GND (power), 25 D_OUT2+ (out), 26 D_OUT2- (out), 27 GND (power), 28 D_OUT1+ (out), 29 D_OUT1- (out), 30 GND (power), 31 GND (power), 32 D_OUT0+ (out), 33 D_OUT0- (out), 34 GND (power), 35 C_OUT+ (out), 36 C_OUT- (out), 37 BST_2 (in), 38 RESERVE, 39 RESERVE, 40 RESERVE, 41 RESERVE, 42 RESERVE, 43 RESERVE, 44 EN (in), 45 SD (out), 46 VDD (power), 47 RESERVE, 48 RESERVE, 49 GND (power)

## DS16EV5110ASQE/NOPB
designator U?
Video Equalizer (3D+C) for DVI, HDMI Source/Repeater/Sink Applications, 48-pin LLP, Pb-Free; PartNumber: DS16EV5110ASQE/NOPB; Manufacturer: National Semiconductor; PackageTopMarking: NS*UZXYTTE#*D16EV511A; PowerWise: N; CompType: Interface IC; Published: 1-Mar-2010; DatasheetVersion: Oct-2008; PackageVersion: revA, Jul-2004; PackageReference: SQA48D; Publisher: Altium Limited; PackageDescription: LLP, Quad, 7 x 7 x 0.8mm, 48 Lead, 0.5mm Pitch, 4.1 x 4.1 Exposed Pad; Supplier 1: Digi-Key; Supplier Part Number 1: DS16EV5110ASQETR-ND; Supplier 2: Digi-Key; Supplier Part Number 2: DS16EV5110ASQECT-ND; Supplier 3: Digi-Key; Supplier Part Number 3: DS16EV5110ASQEDKR-ND; RoHS: Y; PinCount: 48; ComponentLink1Description: DS16EV5110A Datasheet; ComponentLink1URL: http://www.national.com/ds/DS/DS16EV5110A.pdf; ComponentLink2Description: DS16EV5110A Web Page; ComponentLink2URL: http://www.national.com/pf/DS/DS16EV5110A.html; ComponentLink3Description: SQA48D Package Page; ComponentLink3URL: http://www.national.com/packaging/folders/sqa48d.html
footprint SQA48D (QFN, 48-Leads, Body 7x7mm, Pitch 0.5mm, NSC Recommended)
pins: 1 C_IN- (in), 2 C_IN+ (in), 3 VDD (power), 4 D_IN0- (in), 5 D_IN0+ (in), 6 VDD (power), 7 VDD (power), 8 D_IN1- (in), 9 D_IN1+ (in), 10 VDD (power), 11 D_IN2- (in), 12 D_IN2+ (in), 13 VDD (power), 14 BST_1 (in), 15 VDD (power), 16 CS (in), 17 SDC (in), 18 SDA (in), 19 RESERVE, 20 RESERVE, 21 FEB (in), 22 GND (power), 23 BST_0 (in), 24 GND (power), 25 D_OUT2+ (out), 26 D_OUT2- (out), 27 GND (power), 28 D_OUT1+ (out), 29 D_OUT1- (out), 30 GND (power), 31 GND (power), 32 D_OUT0+ (out), 33 D_OUT0- (out), 34 GND (power), 35 C_OUT+ (out), 36 C_OUT- (out), 37 BST_2 (in), 38 RESERVE, 39 RESERVE, 40 RESERVE, 41 RESERVE, 42 RESERVE, 43 RESERVE, 44 EN (in), 45 SD (out), 46 VDD (power), 47 RESERVE, 48 RESERVE, 49 GND (power)

## DS16EV5110ASQX/NOPB
designator U?
Video Equalizer (3D+C) for DVI, HDMI Source/Repeater/Sink Applications, 48-pin LLP, Pb-Free; PartNumber: DS16EV5110ASQX/NOPB; Manufacturer: National Semiconductor; PackageTopMarking: NS*UZXYTTE#*D16EV511A; PowerWise: N; CompType: Interface IC; Published: 1-Mar-2010; DatasheetVersion: Oct-2008; PackageVersion: revA, Jul-2004; PackageReference: SQA48D; Publisher: Altium Limited; PackageDescription: LLP, Quad, 7 x 7 x 0.8mm, 48 Lead, 0.5mm Pitch, 4.1 x 4.1 Exposed Pad; Supplier 1: Digi-Key; Supplier Part Number 1: DS16EV5110ASQX-ND; RoHS: Y; PinCount: 48; ComponentLink1Description: DS16EV5110A Datasheet; ComponentLink1URL: http://www.national.com/ds/DS/DS16EV5110A.pdf; ComponentLink2Description: DS16EV5110A Web Page; ComponentLink2URL: http://www.national.com/pf/DS/DS16EV5110A.html; ComponentLink3Description: SQA48D Package Page; ComponentLink3URL: http://www.national.com/packaging/folders/sqa48d.html
footprint SQA48D (QFN, 48-Leads, Body 7x7mm, Pitch 0.5mm, NSC Recommended)
pins: 1 C_IN- (in), 2 C_IN+ (in), 3 VDD (power), 4 D_IN0- (in), 5 D_IN0+ (in), 6 VDD (power), 7 VDD (power), 8 D_IN1- (in), 9 D_IN1+ (in), 10 VDD (power), 11 D_IN2- (in), 12 D_IN2+ (in), 13 VDD (power), 14 BST_1 (in), 15 VDD (power), 16 CS (in), 17 SDC (in), 18 SDA (in), 19 RESERVE, 20 RESERVE, 21 FEB (in), 22 GND (power), 23 BST_0 (in), 24 GND (power), 25 D_OUT2+ (out), 26 D_OUT2- (out), 27 GND (power), 28 D_OUT1+ (out), 29 D_OUT1- (out), 30 GND (power), 31 GND (power), 32 D_OUT0+ (out), 33 D_OUT0- (out), 34 GND (power), 35 C_OUT+ (out), 36 C_OUT- (out), 37 BST_2 (in), 38 RESERVE, 39 RESERVE, 40 RESERVE, 41 RESERVE, 42 RESERVE, 43 RESERVE, 44 EN (in), 45 SD (out), 46 VDD (power), 47 RESERVE, 48 RESERVE, 49 GND (power)

## DS16EV5110SQ
designator U?
Video Equalizer for DVI, HDMI, and CAT5 Cables, 48-pin LLP; PartNumber: DS16EV5110SQ; Manufacturer: National Semiconductor; PackageTopMarking: NS*UZXYTT*DS16EV511; PowerWise: N; CompType: Interface IC; Published: 4-Dec-2008; DatasheetVersion: Jul-2008; PackageVersion: revA, Jul-2004; PackageReference: SQA48D; Publisher: Altium Limited; PackageDescription: LLP, Quad, 7 x 7 x 0.8mm, 48 Lead, 0.5mm Pitch, 4.1 x 4.1 Exposed Pad; RoHS: Y; PinCount: 48; ComponentLink1Description: DS16EV5110 Datasheet; ComponentLink1URL: http://www.national.com/ds/DS/DS16EV5110.pdf; ComponentLink2Description: DS16EV5110 Web Page; ComponentLink2URL: http://www.national.com/pf/DS/DS16EV5110.html; ComponentLink3Description: SQA48D Package Page; ComponentLink3URL: http://www.national.com/packaging/folders/sqa48d.html
footprint SQA48D (QFN, 48-Leads, Body 7x7mm, Pitch 0.5mm, NSC Recommended)
pins: 1 C_IN- (in), 2 C_IN+ (in), 3 VDD (power), 4 D_IN0- (in), 5 D_IN0+ (in), 6 VDD (power), 7 VDD (power), 8 D_IN1- (in), 9 D_IN1+ (in), 10 VDD (power), 11 D_IN2- (in), 12 D_IN2+ (in), 13 VDD (power), 14 BST_1 (in), 15 VDD (power), 16 CS (in), 17 SDC (in), 18 SDA (in), 19 RESERVE, 20 RESERVE, 21 FEB (in), 22 GND (power), 23 BST_0 (in), 24 GND (power), 25 D_OUT2+ (out), 26 D_OUT2- (out), 27 GND (power), 28 D_OUT1+ (out), 29 D_OUT1- (out), 30 GND (power), 31 GND (power), 32 D_OUT0+ (out), 33 D_OUT0- (out), 34 GND (power), 35 C_OUT+ (out), 36 C_OUT- (out), 37 BST_2 (in), 38 RESERVE, 39 RESERVE, 40 RESERVE, 41 RESERVE, 42 RESERVE, 43 RESERVE, 44 EN (in), 45 SD (out), 46 VDD (power), 47 RESERVE, 48 RESERVE, 49 GND (power)

## DS16EV5110SQ/NOPB
designator U?
Video Equalizer (3D+C) for DVI, HDMI Sink-Side Applications, 48-pin LLP, Pb-Free; PartNumber: DS16EV5110SQ/NOPB; Manufacturer: National Semiconductor; PackageTopMarking: NS*UZXYTTE#*DS16EV511; PowerWise: N; CompType: Interface IC; Published: 1-Mar-2010; DatasheetVersion: Jul-2008; PackageVersion: revA, Jul-2004; PackageReference: SQA48D; Publisher: Altium Limited; PackageDescription: LLP, Quad, 7 x 7 x 0.8mm, 48 Lead, 0.5mm Pitch, 4.1 x 4.1 Exposed Pad; Supplier 1: Digi-Key; Supplier Part Number 1: DS16EV5110SQTR-ND; Supplier 2: Digi-Key; Supplier Part Number 2: DS16EV5110SQCT-ND; Supplier 3: Digi-Key; Supplier Part Number 3: DS16EV5110SQDKR-ND; Supplier 4: Farnell; Supplier Part Number 4: 1685755; RoHS: Y; PinCount: 48; ComponentLink1Description: DS16EV5110 Datasheet; ComponentLink1URL: http://www.national.com/ds/DS/DS16EV5110.pdf; ComponentLink2Description: DS16EV5110 Web Page; ComponentLink2URL: http://www.national.com/pf/DS/DS16EV5110.html; ComponentLink3Description: SQA48D Package Page; ComponentLink3URL: http://www.national.com/packaging/folders/sqa48d.html
footprint SQA48D (QFN, 48-Leads, Body 7x7mm, Pitch 0.5mm, NSC Recommended)
pins: 1 C_IN- (in), 2 C_IN+ (in), 3 VDD (power), 4 D_IN0- (in), 5 D_IN0+ (in), 6 VDD (power), 7 VDD (power), 8 D_IN1- (in), 9 D_IN1+ (in), 10 VDD (power), 11 D_IN2- (in), 12 D_IN2+ (in), 13 VDD (power), 14 BST_1 (in), 15 VDD (power), 16 CS (in), 17 SDC (in), 18 SDA (in), 19 RESERVE, 20 RESERVE, 21 FEB (in), 22 GND (power), 23 BST_0 (in), 24 GND (power), 25 D_OUT2+ (out), 26 D_OUT2- (out), 27 GND (power), 28 D_OUT1+ (out), 29 D_OUT1- (out), 30 GND (power), 31 GND (power), 32 D_OUT0+ (out), 33 D_OUT0- (out), 34 GND (power), 35 C_OUT+ (out), 36 C_OUT- (out), 37 BST_2 (in), 38 RESERVE, 39 RESERVE, 40 RESERVE, 41 RESERVE, 42 RESERVE, 43 RESERVE, 44 EN (in), 45 SD (out), 46 VDD (power), 47 RESERVE, 48 RESERVE, 49 GND (power)

## DS16EV5110SQX/NOPB
designator U?
Video Equalizer (3D+C) for DVI, HDMI Sink-Side Applications, 48-pin LLP, Pb-Free; PartNumber: DS16EV5110SQX/NOPB; Manufacturer: National Semiconductor; PackageTopMarking: NS*UZXYTTE#*DS16EV511; PowerWise: N; CompType: Interface IC; Published: 1-Mar-2010; DatasheetVersion: Jul-2008; PackageVersion: revA, Jul-2004; PackageReference: SQA48D; Publisher: Altium Limited; PackageDescription: LLP, Quad, 7 x 7 x 0.8mm, 48 Lead, 0.5mm Pitch, 4.1 x 4.1 Exposed Pad; Supplier 1: Digi-Key; Supplier Part Number 1: DS16EV5110SQX-ND; RoHS: Y; PinCount: 48; ComponentLink1Description: DS16EV5110 Datasheet; ComponentLink1URL: http://www.national.com/ds/DS/DS16EV5110.pdf; ComponentLink2Description: DS16EV5110 Web Page; ComponentLink2URL: http://www.national.com/pf/DS/DS16EV5110.html; ComponentLink3Description: SQA48D Package Page; ComponentLink3URL: http://www.national.com/packaging/folders/sqa48d.html
footprint SQA48D (QFN, 48-Leads, Body 7x7mm, Pitch 0.5mm, NSC Recommended)
pins: 1 C_IN- (in), 2 C_IN+ (in), 3 VDD (power), 4 D_IN0- (in), 5 D_IN0+ (in), 6 VDD (power), 7 VDD (power), 8 D_IN1- (in), 9 D_IN1+ (in), 10 VDD (power), 11 D_IN2- (in), 12 D_IN2+ (in), 13 VDD (power), 14 BST_1 (in), 15 VDD (power), 16 CS (in), 17 SDC (in), 18 SDA (in), 19 RESERVE, 20 RESERVE, 21 FEB (in), 22 GND (power), 23 BST_0 (in), 24 GND (power), 25 D_OUT2+ (out), 26 D_OUT2- (out), 27 GND (power), 28 D_OUT1+ (out), 29 D_OUT1- (out), 30 GND (power), 31 GND (power), 32 D_OUT0+ (out), 33 D_OUT0- (out), 34 GND (power), 35 C_OUT+ (out), 36 C_OUT- (out), 37 BST_2 (in), 38 RESERVE, 39 RESERVE, 40 RESERVE, 41 RESERVE, 42 RESERVE, 43 RESERVE, 44 EN (in), 45 SD (out), 46 VDD (power), 47 RESERVE, 48 RESERVE, 49 GND (power)

## DS16F95AJA
designator U?
TIA/EIA-485-A (RS-485) Extended Temperature Differential Bus Transceiver, 8-pin CerDIP; PartNumber: DS16F95AJA; Manufacturer: National Semiconductor; PackageTopMarking: NSUZXYTT*DS16F95AJA; PowerWise: N; CompType: Interface IC; Published: 1-Mar-2010; DatasheetVersion: Nov-2008; PackageVersion: revM, Jul-2002; PackageReference: J08A; Publisher: Altium Limited; PackageDescription: Cerdip, .400 x .310in Body, 8 Lead, .300in Centers, .100in Pitch; RoHS: N; PinCount: 8; ComponentLink1Description: DS16F95A Datasheet; ComponentLink1URL: http://www.national.com/ds/DS/DS16F95A.pdf; ComponentLink2Description: DS16F95A Web Page; ComponentLink2URL: http://www.national.com/pf/DS/DS16F95A.html; ComponentLink3Description: J08A Package Page; ComponentLink3URL: http://www.national.com/packaging/folders/j08a.html
footprint J08A (DIP, 8-Leads, Row Spacing 7.62mm, Pitch 2.54mm, Body 9.78x6.73mm)
pins: 1 RO (hiz), 2 ~{RE} (in), 3 DE (in), 4 DI (in), 5 GND (power), 6 DO/RI (io), 7 ~{DO}/~{RI} (io), 8 VDD (power)

## DS22EV5110SQ
designator U?
DVI, HDMI Extended Reach Equalizer with Retimer and Output De-Emphasis, 48-pin LLP; PartNumber: DS22EV5110SQ; Manufacturer: National Semiconductor; PackageTopMarking: NS*UZXYTT*22EV5110; PowerWise: N; CompType: Interface IC; Published: 9-Oct-2009; DatasheetVersion: Feb-2010; PackageVersion: revB, May-2009; PackageReference: SQA48A; Publisher: Altium Limited; PackageDescription: LLP, Plastic, Quad, 7 x 7 x 0.8mm Body, 48 Lead, 0.5mm Pitch, No Pullback; RoHS: Y; PinCount: 48; Code_JEDEC: MO-220-WKKD-2; ComponentLink1Description: DS22EV5110 Datasheet; ComponentLink1URL: http://www.national.com/ds/DS/DS22EV5110.pdf; ComponentLink2Description: DS22EV5110 Web Page; ComponentLink2URL: http://www.national.com/pf/DS/DS22EV5110.html; ComponentLink3Description: SQA48A Package Page; ComponentLink3URL: http://www.national.com/packaging/folders/sqa48a.html
footprint SQA48A (QFN, 48-Leads, Body 7x7mm, Pitch 0.5mm, NSC Recommended)
pins: 1 C_IN- (in), 2 C_IN+ (in), 3 VDD (power), 4 D_IN0- (in), 5 D_IN0+ (in), 6 VDD (power), 7 VDD (power), 8 D_IN1- (in), 9 D_IN1+ (in), 10 VDD (power), 11 D_IN2- (in), 12 D_IN2+ (in), 13 VDD (power), 14 LOCK (out), 15 VDD (power), 16 RESV, 17 RESV, 18 RESV, 19 RESV, 20 RESV, 21 RESV, 22 GND (power), 23 RESV, 24 GND (power), 25 D_OUT2+ (oc), 26 D_OUT2- (oc), 27 GND (power), 28 D_OUT1+ (oc), 29 D_OUT1- (oc), 30 GND (power), 31 GND (power), 32 D_OUT0+ (oc), 33 D_OUT0- (oc), 34 GND (power), 35 C_OUT+ (oc), 36 C_OUT- (oc), 37 EQ2 (in), 38 EQ1 (in), 39 EQ0 (in), 40 LFP, 41 LFN, 42 DE1 (in), 43 DE0 (in), 44 EN (in), 45 SD (out), 46 VDD (power), 47 BYPASS, 48 VOD_CRL, 49 DAP

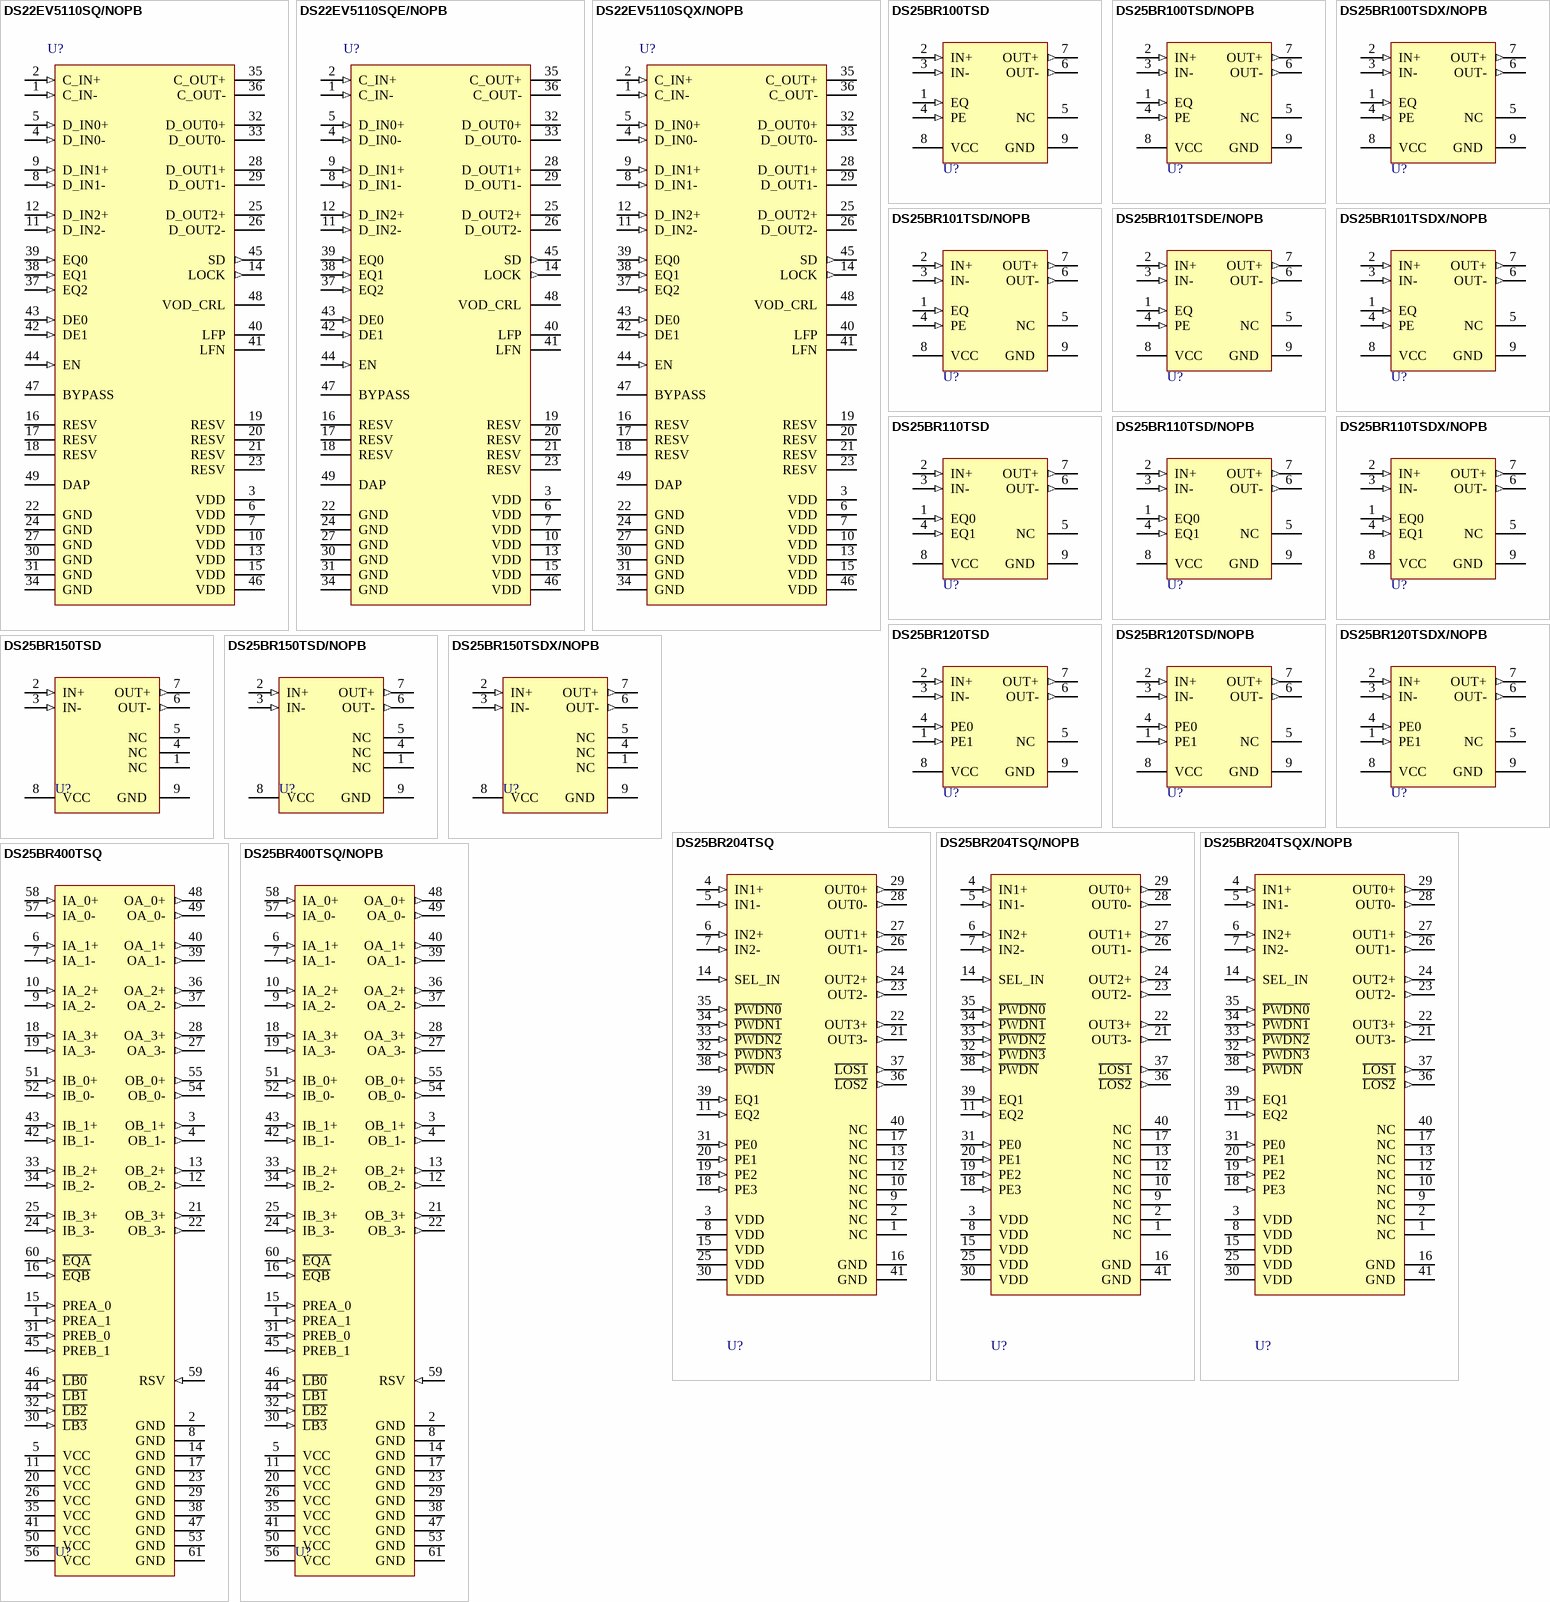
[diagram p16: symbols DS22EV5110SQ/NOPB to DS25BR400TSQ/NOPB]

## DS22EV5110SQ/NOPB
designator U?
DVI, HDMI Extended Reach Equalizer with Retimer and Output De-Emphasis, 48-pin LLP, Pb-Free; PartNumber: DS22EV5110SQ/NOPB; Manufacturer: National Semiconductor; PackageTopMarking: NS*UZXYTTE#*22EV5110; PowerWise: N; CompType: Interface IC; Published: 1-Mar-2010; DatasheetVersion: Feb-2010; PackageVersion: revB, May-2009; PackageReference: SQA48A; Publisher: Altium Limited; PackageDescription: LLP, Plastic, Quad, 7 x 7 x 0.8mm Body, 48 Lead, 0.5mm Pitch, No Pullback; Supplier 1: Digi-Key; Supplier Part Number 1: DS22EV5110SQ-ND; RoHS: Y; PinCount: 48; Code_JEDEC: MO-220-WKKD-2; ComponentLink1Description: DS22EV5110 Datasheet; ComponentLink1URL: http://www.national.com/ds/DS/DS22EV5110.pdf; ComponentLink2Description: DS22EV5110 Web Page; ComponentLink2URL: http://www.national.com/pf/DS/DS22EV5110.html; ComponentLink3Description: SQA48A Package Page; ComponentLink3URL: http://www.national.com/packaging/folders/sqa48a.html
footprint SQA48A (QFN, 48-Leads, Body 7x7mm, Pitch 0.5mm, NSC Recommended)
pins: 1 C_IN- (in), 2 C_IN+ (in), 3 VDD (power), 4 D_IN0- (in), 5 D_IN0+ (in), 6 VDD (power), 7 VDD (power), 8 D_IN1- (in), 9 D_IN1+ (in), 10 VDD (power), 11 D_IN2- (in), 12 D_IN2+ (in), 13 VDD (power), 14 LOCK (out), 15 VDD (power), 16 RESV, 17 RESV, 18 RESV, 19 RESV, 20 RESV, 21 RESV, 22 GND (power), 23 RESV, 24 GND (power), 25 D_OUT2+ (oc), 26 D_OUT2- (oc), 27 GND (power), 28 D_OUT1+ (oc), 29 D_OUT1- (oc), 30 GND (power), 31 GND (power), 32 D_OUT0+ (oc), 33 D_OUT0- (oc), 34 GND (power), 35 C_OUT+ (oc), 36 C_OUT- (oc), 37 EQ2 (in), 38 EQ1 (in), 39 EQ0 (in), 40 LFP, 41 LFN, 42 DE1 (in), 43 DE0 (in), 44 EN (in), 45 SD (out), 46 VDD (power), 47 BYPASS, 48 VOD_CRL, 49 DAP

## DS22EV5110SQE/NOPB
designator U?
DVI, HDMI Extended Reach Equalizer with Retimer and Output De-Emphasis, 48-pin LLP, Pb-Free; PartNumber: DS22EV5110SQE/NOPB; Manufacturer: National Semiconductor; PackageTopMarking: NS*UZXYTTE#*22EV5110; PowerWise: N; CompType: Interface IC; Published: 1-Mar-2010; DatasheetVersion: Feb-2010; PackageVersion: revB, May-2009; PackageReference: SQA48A; Publisher: Altium Limited; PackageDescription: LLP, Plastic, Quad, 7 x 7 x 0.8mm Body, 48 Lead, 0.5mm Pitch, No Pullback; Supplier 1: Digi-Key; Supplier Part Number 1: DS22EV5110SQETR-ND; Supplier 2: Digi-Key; Supplier Part Number 2: DS22EV5110SQECT-ND; Supplier 3: Digi-Key; Supplier Part Number 3: DS22EV5110SQEDKR-ND; RoHS: Y; PinCount: 48; Code_JEDEC: MO-220-WKKD-2; ComponentLink1Description: DS22EV5110 Datasheet; ComponentLink1URL: http://www.national.com/ds/DS/DS22EV5110.pdf; ComponentLink2Description: DS22EV5110 Web Page; ComponentLink2URL: http://www.national.com/pf/DS/DS22EV5110.html; ComponentLink3Description: SQA48A Package Page; ComponentLink3URL: http://www.national.com/packaging/folders/sqa48a.html
footprint SQA48A (QFN, 48-Leads, Body 7x7mm, Pitch 0.5mm, NSC Recommended)
pins: 1 C_IN- (in), 2 C_IN+ (in), 3 VDD (power), 4 D_IN0- (in), 5 D_IN0+ (in), 6 VDD (power), 7 VDD (power), 8 D_IN1- (in), 9 D_IN1+ (in), 10 VDD (power), 11 D_IN2- (in), 12 D_IN2+ (in), 13 VDD (power), 14 LOCK (out), 15 VDD (power), 16 RESV, 17 RESV, 18 RESV, 19 RESV, 20 RESV, 21 RESV, 22 GND (power), 23 RESV, 24 GND (power), 25 D_OUT2+ (oc), 26 D_OUT2- (oc), 27 GND (power), 28 D_OUT1+ (oc), 29 D_OUT1- (oc), 30 GND (power), 31 GND (power), 32 D_OUT0+ (oc), 33 D_OUT0- (oc), 34 GND (power), 35 C_OUT+ (oc), 36 C_OUT- (oc), 37 EQ2 (in), 38 EQ1 (in), 39 EQ0 (in), 40 LFP, 41 LFN, 42 DE1 (in), 43 DE0 (in), 44 EN (in), 45 SD (out), 46 VDD (power), 47 BYPASS, 48 VOD_CRL, 49 DAP